# Altium schematic symbol library CM1624-08DE.Schlib: 1 symbol
Pins are listed as number, name and electrical type; pins without a type are passive.

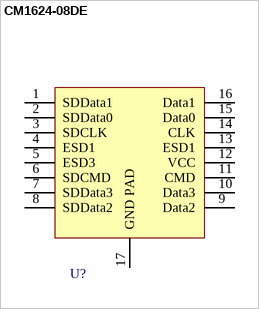
[diagram p0: symbol CM1624-08DE]

## CM1624-08DE
designator U?
EMI Filter for MicroSD Interface
pins: 1 SDData1, 2 SDData0, 3 SDCLK, 4 ESD1, 5 ESD3, 6 SDCMD, 7 SDData3, 8 SDData2, 9 Data2, 10 Data3, 11 CMD, 12 VCC, 13 ESD1, 14 CLK, 15 Data0, 16 Data1, 17 GND PAD